# Altium schematic symbol library ATA5283.SCHLIB: 1 symbol
Pins are listed as number, name and electrical type; pins without a type are passive.

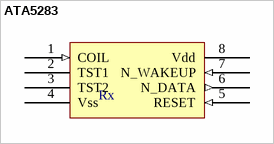
[diagram p0: symbol ATA5283]

## ATA5283
designator Rx
Interface IC for 125kHz Wake-up Function
footprint TSSOP8L
pins: 1 COIL (in) "Antenna coil input", 2 TST1 (hiz), 3 TST2 (hiz), 4 Vss "Signal GND", 5 RESET (in) "External reset input", 6 N_DATA (out) "Data signal", 7 N_WAKEUP (in) "Low active wake-up signal for uC", 8 Vdd (power) "Battery voltage"